# Altium footprint library CAPARV500W50L400T260H400.PcbLib: 1 footprints
Each footprint in its own frame and in the unit in brackets; x right, y up, seen from the top. Pads: shape width x height; smd on the part's side, far side on the other; paste and mask are expansions set on the pad; w line width, h text height; cw(c..) or ccw(c..) is an arc to the next point about the centre after c.
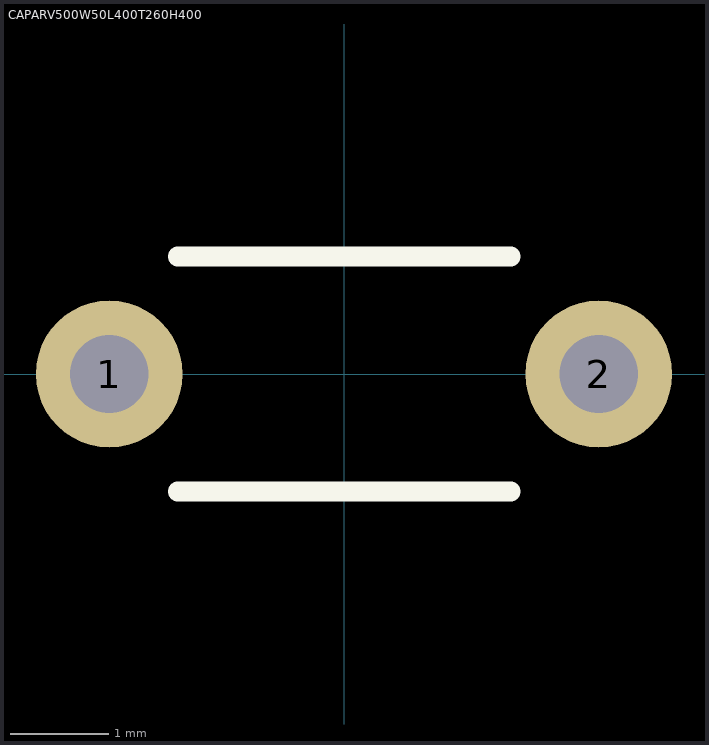
[diagram p0: the footprint, top view; thin cyan lines are the x and y axes]

## CAPARV500W50L400T260H400 [mm] "Capacitor, Non Polarized Axial Rectangular"
height 4
pads (2):
  round 1.5 hole 0.8: 1(-2.4,0) 2(2.6,0)
Top Overlay:
  lines w0.2: -1.7,-1.2 1.7,-1.2 ; -1.7,1.2 1.7,1.2
3D body: height 4, standoff 1, extent -1.75,-1.3 1.75,1.3